# EAGLE library part CC2540_RHA_40 (library DECADE-libraries)
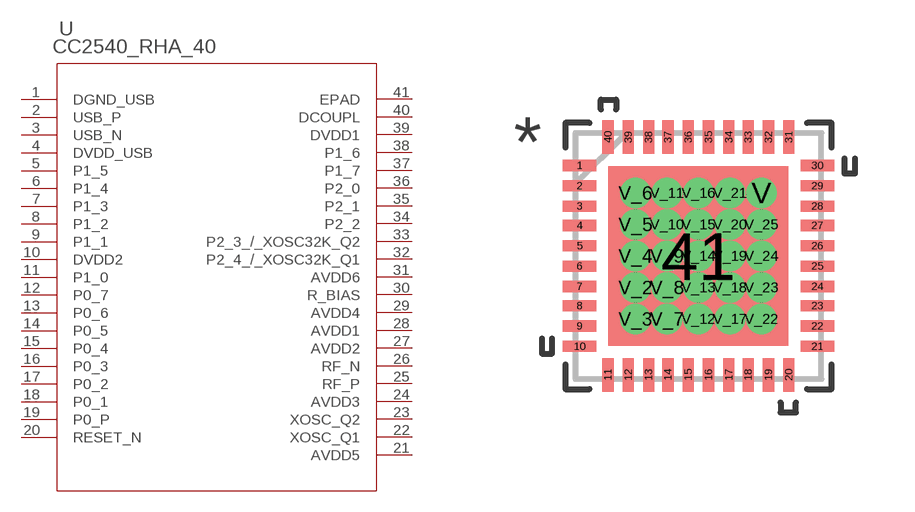
[diagram p26: symbol with the pads of RHA40_4P5X4P5; footprint RHA40_4P5X4P5]

Designator prefix U

## CC2540_RHA_40 (DATASHEETURL: http://www.ti.com/lit/gpn/CC2540; DESCRIPTION: 2.4GHz Bluetooth Low Energy System-on-Chip Solution; FAMILY_NAME: Bluetooth Low Energy Technology; GENERIC_PART_NUMBER: CC2540; INDUSTRY_STD_PKG_TYPE: VQFN; MANUFACTURER: Texas Instruments; PACKAGE_DESIGNATOR: RHA; PIN_COUNT: 40)  [RHA40_4P5X4P5]
1  DGND_USB  pwr
2  USB_P
3  USB_N
4  DVDD_USB  pwr
5  P1_5
6  P1_4
7  P1_3
8  P1_2
9  P1_1
10  DVDD2  pwr
11  P1_0
12  P0_7
13  P0_6
14  P0_5
15  P0_4
16  P0_3
17  P0_2
18  P0_1
19  P0_P
20  RESET_N  in
21  AVDD5  pwr
22  XOSC_Q1
23  XOSC_Q2
24  AVDD3  pwr
25  RF_P
26  RF_N
27  AVDD2  pwr
28  AVDD1  pwr
29  AVDD4  pwr
30  R_BIAS
31  AVDD6  pwr
32  P2_4_/_XOSC32K_Q1  pas
33  P2_3_/_XOSC32K_Q2  pas
34  P2_2
35  P2_1
36  P2_0
37  P1_7
38  P1_6
39  DVDD1  pwr
40  DCOUPL  pwr
41  EPAD  pwr

## Footprint RHA40_4P5X4P5 (pad centres in mm)
smd 0.838 x 0.279: 1 -2.972,2.261; 2 -2.972,1.753; 3 -2.972,1.245; 4 -2.972,0.762; 5 -2.972,0.254; 6 -2.972,-0.254; 7 -2.972,-0.762; 8 -2.972,-1.245; 9 -2.972,-1.753; 10 -2.972,-2.261; 21 2.972,-2.261; 22 2.972,-1.753; 23 2.972,-1.245; 24 2.972,-0.762; 25 2.972,-0.254; 26 2.972,0.254; 27 2.972,0.762; 28 2.972,1.245; 29 2.972,1.753; 30 2.972,2.261
smd 0.279 x 0.838: 11 -2.261,-2.972; 12 -1.753,-2.972; 13 -1.245,-2.972; 14 -0.762,-2.972; 15 -0.254,-2.972; 16 0.254,-2.972; 17 0.762,-2.972; 18 1.245,-2.972; 19 1.753,-2.972; 20 2.261,-2.972; 31 2.261,2.972; 32 1.753,2.972; 33 1.245,2.972; 34 0.762,2.972; 35 0.254,2.972; 36 -0.254,2.972; 37 -0.762,2.972; 38 -1.245,2.972; 39 -1.753,2.972; 40 -2.261,2.972
smd 4.496 x 4.496: 41 0,0
drill 0.254: V 1.575,1.575; V_2 -1.575,-0.787; V_3 -1.575,-1.575; V_4 -1.575,0; V_5 -1.575,0.787; V_6 -1.575,1.575; V_7 -0.787,-1.575; V_8 -0.787,-0.787; V_9 -0.787,0; V_10 -0.787,0.787; V_11 -0.787,1.575; V_12 0,-1.575; V_13 0,-0.787; V_14 0,0; V_15 0,0.787; V_16 0,1.575; V_17 0.787,-1.575; V_18 0.787,-0.787; V_19 0.787,0; V_20 0.787,0.787; V_21 0.787,1.575; V_22 1.575,-1.575; V_23 1.575,-0.787; V_24 1.575,0; V_25 1.575,0.787